# EAGLE library part BGM1034N7 (library GTA04b7)
GPS and GLONASS Front-End Module
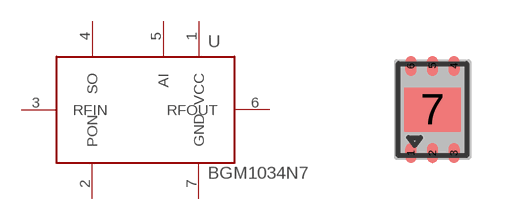
[diagram p3: symbol with the pads of TSNP-7-10; footprint TSNP-7-10]

Designator prefix -

## BGM1034N7  [TSNP-7-10]
1  VCC  pwr
2  PON
3  RFIN  pas
4  SO  pas
5  AI  pas
6  RFOUT  pas
7  GND  pwr

## Footprint TSNP-7-10 (pad centres in mm)
Infineon TSNP-7-10
smd 0.28 x 0.5: 1 -0.54,-1.09; 2 0,-1.09; 3 0.54,-1.09; 4 0.54,1.09; 5 0,1.09; 6 -0.54,1.09
smd 1.42 x 1.1: 7 0,0